# EAGLE library part 428527320910 (library Switches_rev16a)
WS-RAT-10x10 mm washable THT Rotary Switch,6 pins,10 position
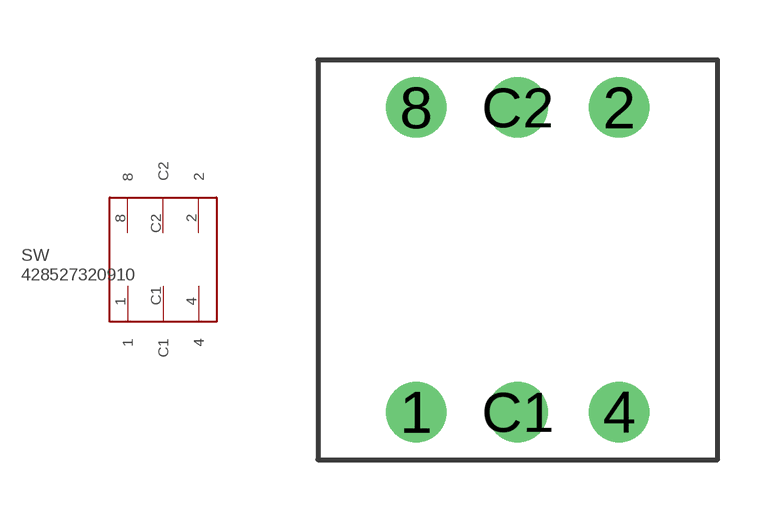
[diagram p8: symbol with the pads of 428527320910; footprint 428527320910]

Designator prefix SW

## 428527320910  [428527320910]
1  1
2  2
4  4
8  8
C1  C1
C2  C2

## Footprint 428527320910 (pad centres in mm)
WS-RAT-10x10 mm washable THT Rotary Switch,6 pins,10 positions
drill 1: 1 -2.54,-3.81; 2 2.54,3.81; 4 2.54,-3.81; 8 -2.54,3.81; C1 0,-3.81; C2 0,3.81